# EAGLE library part LTC6803-2 (library Richard)
LTC6803-2 Multicell Battery Stack Monitor DESCRIPTION The LTC®6803 is a 2nd generation, complete battery moni- toring IC that includes a 12-bit ADC, a precision voltage reference, a high voltage input multiplexer and a serial interface. Each LTC6803 can measure up to 12 series connected battery cells or supercapacitors. Many LTC6803 devices can be stacked to measure the voltage of each cell in a long battery string. Each LTC6803-2/LTC6803-4 has an individually addressable serial interface, allowing up to 16 LTC6803-2/LTC6803-4 devices to interface to one control processor and operate simultaneously. Each cell input has an associated MOSFET switch for discharging overcharged cells. The LTC6803-2 connects the bottom of the stack to V– internally. It is pin compatible with the LTC6802-2, providing a drop-in upgrade. The LTC6803-4 separates the bottom of the stack from V–, improving cell 1 measurement accuracy. The LTC6803 provides a standby mode to reduce supply current to 12μA. Furthermore, the LTC6803 can be powered from an isolated supply, providing a technique to reduce battery stack current draw to zero. The related LTC6803-1 and LTC6803-3 offer a serial in- terface that allows the serial ports of multiple LTC6803-1 or LTC6803-3 devices to be daisy chained without opto- couplers or isolators.
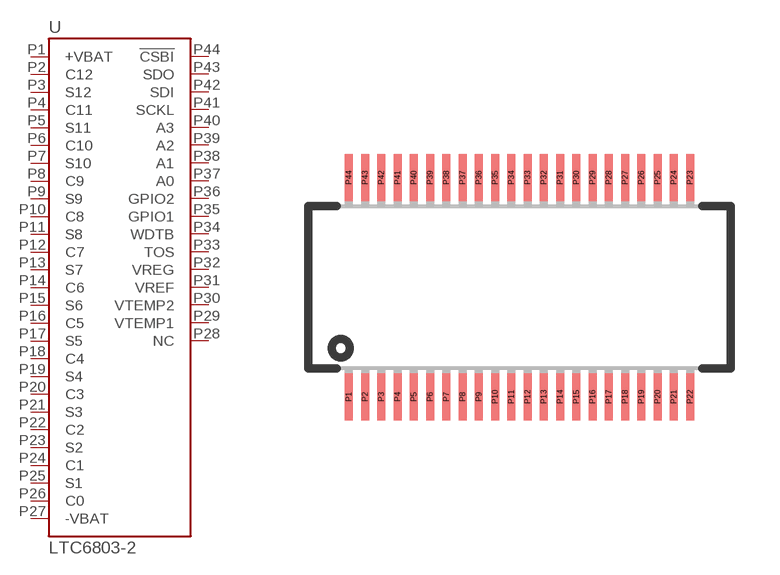
[diagram p1: symbol with the pads of SSOP44; footprint SSOP44]

Designator prefix U

## LTC6803-2 (MANUF: Linear Technology; PARTNUM: LTC6803IG-2#PBF)  [SSOP44]
P1  +VBAT  pas
P2  C12  pas
P3  S12  pas
P4  C11  pas
P5  S11  pas
P6  C10  pas
P7  S10  pas
P8  C9  pas
P9  S9  pas
P10  C8  pas
P11  S8  pas
P12  C7  pas
P13  S7  pas
P14  C6  pas
P15  S6  pas
P16  C5  pas
P17  S5  pas
P18  C4  pas
P19  S4  pas
P20  C3  pas
P21  S3  pas
P22  C2  pas
P23  S2  pas
P24  C1  pas
P25  S1  pas
P26  C0  pas
P27  -VBAT  pas
P28  NC  pas
P29  VTEMP1  pas
P30  VTEMP2  pas
P31  VREF  pas
P32  VREG  pas
P33  TOS  pas
P34  WDTB  pas
P35  GPIO1  pas
P36  GPIO2  pas
P37  A0  pas
P38  A1  pas
P39  A2  pas
P40  A3  pas
P41  SCKL  pas
P42  SDI  pas
P43  SDO  pas
P44  !CSBI  pas

## Footprint SSOP44 (pad centres in mm)
G Package 44-Lead Plastic SSOP (5.3mm) Reference LTC DWG # 05-08-1754
smd 0.25 x 1.45: P1 -5.25,-3.375; P2 -4.75,-3.375; P3 -4.25,-3.375; P4 -3.75,-3.375; P5 -3.25,-3.375; P6 -2.75,-3.375; P7 -2.25,-3.375; P8 -1.75,-3.375; P9 -1.25,-3.375; P10 -0.75,-3.375; P11 -0.25,-3.375; P12 0.25,-3.375; P13 0.75,-3.375; P14 1.25,-3.375; P15 1.75,-3.375; P16 2.25,-3.375; P17 2.75,-3.375; P18 3.25,-3.375; P19 3.75,-3.375; P20 4.25,-3.375; P21 4.75,-3.375; P22 5.25,-3.375; P23 5.25,3.375; P24 4.75,3.375; P25 4.25,3.375; P26 3.75,3.375; P27 3.25,3.375; P28 2.75,3.375; P29 2.25,3.375; P30 1.75,3.375; P31 1.25,3.375; P32 0.75,3.375; P33 0.25,3.375; P34 -0.25,3.375; P35 -0.75,3.375; P36 -1.25,3.375; P37 -1.75,3.375; P38 -2.25,3.375; P39 -2.75,3.375; P40 -3.25,3.375; P41 -3.75,3.375; P42 -4.25,3.375; P43 -4.75,3.375; P44 -5.25,3.375